# EAGLE library part OPEN_CON_2X9 (library Bat-Components)
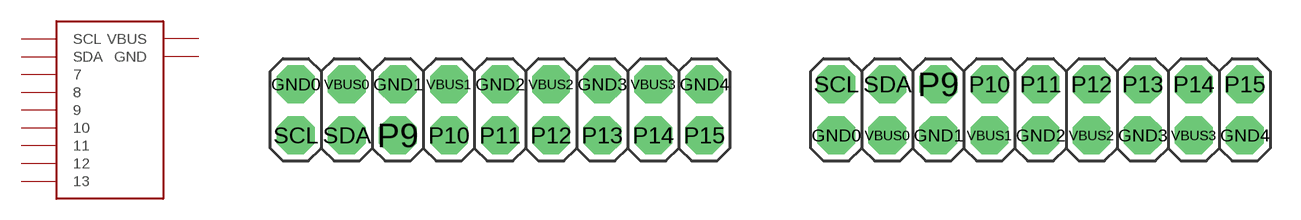
[diagram p3: symbol with the pads of 2X9_F; footprints 2X9_F, 2X9_M]

Designator prefix -

## OPEN_CON_2X9F  [2X9_F]
GND0  GND
GND1  GND
GND2  GND
GND3  GND
GND4  GND
P9  7
P10  8
P11  9
P12  10
P13  11
P14  12
P15  13
SCL  SCL
SDA  SDA
VBUS0  VBUS
VBUS1  VBUS
VBUS2  VBUS
VBUS3  VBUS

## OPEN_CON_2X9M  [2X9_M]
Pads as for 2X9_F

## Footprint 2X9_F (pad centres in mm)
drill 1.016 pad 1.88 octagon: GND0 0,2.54; GND1 5.08,2.54; GND2 10.16,2.54; GND3 15.24,2.54; GND4 20.32,2.54; P9 5.08,0; P10 7.62,0; P11 10.16,0; P12 12.7,0; P13 15.24,0; P14 17.78,0; P15 20.32,0; SCL 0,0; SDA 2.54,0; VBUS0 2.54,2.54; VBUS1 7.62,2.54; VBUS2 12.7,2.54; VBUS3 17.78,2.54

## Footprint 2X9_M (pad centres in mm)
drill 1.016 pad 1.88 octagon: GND0 0,0; GND1 5.08,0; GND2 10.16,0; GND3 15.24,0; GND4 20.32,0; P9 5.08,2.54; P10 7.62,2.54; P11 10.16,2.54; P12 12.7,2.54; P13 15.24,2.54; P14 17.78,2.54; P15 20.32,2.54; SCL 0,2.54; SDA 2.54,2.54; VBUS0 2.54,0; VBUS1 7.62,0; VBUS2 12.7,0; VBUS3 17.78,0